# Altium footprint library PCB - EEPROM - MLP-8.PCBLIB: 1 footprints
Each footprint in its own frame and in the unit in brackets; x right, y up, seen from the top. Pads: shape width x height; smd on the part's side, far side on the other; paste and mask are expansions set on the pad; w line width, h text height; cw(c..) or ccw(c..) is an arc to the next point about the centre after c.
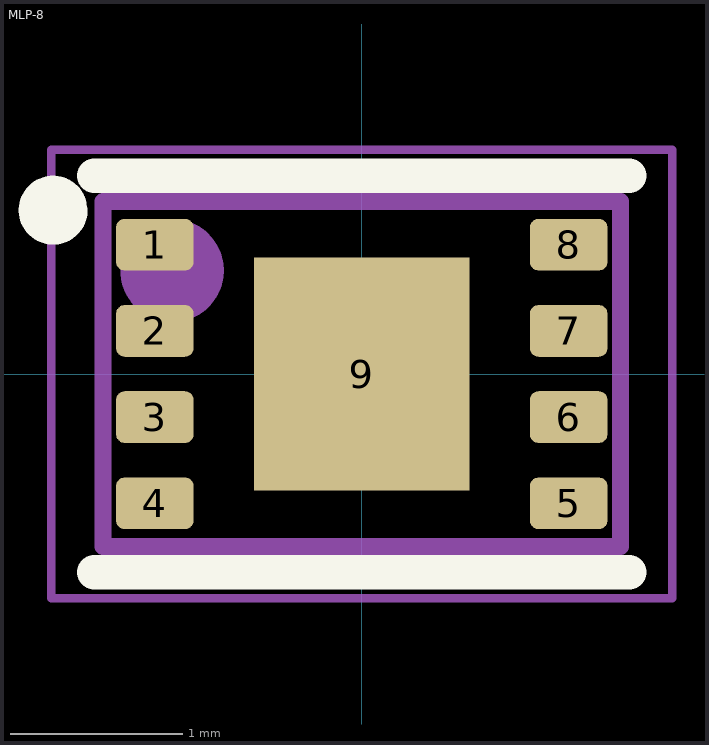
[diagram p0: the footprint, top view; thin cyan lines are the x and y axes]

## MLP-8 [mm] "Pullback Small Outline No-Lead (PSON with Tab), 0.50 mm pitch; 8 pin, 2.00 mm L X 3.00 mm W X 0.80 mm H body"
height 0.8
pads (9):
  rrect33% 0.45x0.3 smd: 1(-1.2,0.75) 2(-1.2,0.25) 3(-1.2,-0.25) 4(-1.2,-0.75) 5(1.2,-0.75) 6(1.2,-0.25) 7(1.2,0.25) 8(1.2,0.75)
  rect 1.25x1.35 smd paste-0.19: 9(0,0)
Top Overlay:
  lines w0.2: -1.696,0.985 ccw(c-1.79,0.95) -1.69,0.95 ; -1.55,-1.15 1.55,-1.15 ; -1.55,1.15 1.55,1.15
Top Assembly:
  circle w0.3: c-1.1,0.6 r0.15
  lines w0.1: -1.5,-1 1.5,-1 1.5,1 -1.5,1 -1.5,-1
Top Courtyard:
  lines w0.05: -1.8,-1.3 1.8,-1.3 1.8,1.3 -1.8,1.3 -1.8,-1.3
Top Designator:
  text ".Designator" at -0.4,1.3 h0.76
Top Component Center:
  lines w0.05: -0.35,0 0.35,0 ; 0,-0.35 0,0.35
3D body "PSON50P200X300X80-9T125X135.STEP": height 0.8, standoff 0, extent -1.5,-1 1.5,1